# Altium footprint library WL-SIQW.PcbLib: 3 footprints
Each footprint in its own frame and in the unit in brackets; x right, y up, seen from the top. Pads: shape width x height; smd on the part's side, far side on the other; paste and mask are expansions set on the pad; w line width, h text height; cw(c..) or ccw(c..) is an arc to the next point about the centre after c.
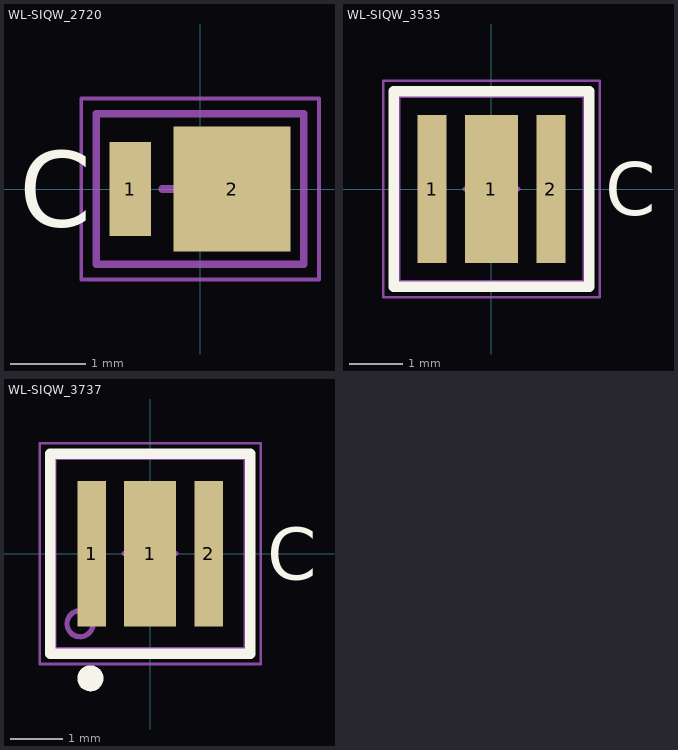
[diagram p0: the footprints below, top view; thin cyan lines are the x and y axes]

## WL-SIQW_2720 [mm] "SMT Infrared QFN LED  Waterclear, body 2.75x2mm"
height 0.6
pads (2):
  rect 0.55x1.25 smd: 1(-0.925,0)
  rect 1.55x1.65 smd: 2(0.425,0)
Top Overlay:
  text "C" at -2.4,-0.5 h1
Top Assembly:
  lines w0.1: -1.375,-1 1.375,-1 1.375,1 -1.375,1 -1.375,-1
Top Designator:
  text ".Designator" at -3.647,-0.357 h1
Top 3D Body:
  lines w0.1: -1.375,-1 -1.375,1 1.375,1 1.375,-1 -1.375,-1
Top Courtyard:
  lines w0.05: -1.575,-1.2 1.575,-1.2 1.575,1.2 -1.575,1.2 -1.575,-1.2
Top Component Center:
  lines w0.1: -0.5,0 0.5,0 ; 0,-0.5 0,0.5
3D body "WL-SIQW_2720_maxSized.stp": height 0.72, standoff -0.03, extent -1.45,-1.075 1.45,1.075

## WL-SIQW_3535 [mm] "SMT Infrared QFN LED  Waterclear, body 3.55x3.55mm"
height 2.63
pads (3):
  rect 0.55x2.8 smd: 1(-1.125,0) 2(1.125,0)
  rect 1x2.8 smd: 1(0,0)
Top Overlay:
  lines w0.2: -1.85,-1.85 -1.85,1.85 1.85,1.85 1.85,-1.85 -1.85,-1.85
  text "C" at 2.15,-0.5 h1
Top Assembly:
  lines w0.1: -1.775,-1.775 1.775,-1.775 1.775,1.775 -1.775,1.775 -1.775,-1.775
Top Designator:
  text ".Designator" at -3.647,-0.357 h1
Top 3D Body:
  lines w0.1: -1.775,-1.775 -1.775,1.775 1.775,1.775 1.775,-1.775 -1.775,-1.775
Top Courtyard:
  lines w0.05: -2.05,-2.05 2.05,-2.05 2.05,2.05 -2.05,2.05 -2.05,-2.05
Top Component Center:
  lines w0.1: -0.5,0 0.5,0 ; 0,-0.5 0,0.5
3D body "WL-SIQW_3535.stp": height 0.85, standoff 0, extent -1.775,-1.775 1.775,1.775

## WL-SIQW_3737 [mm] "SMT Infrared QFN LED  Waterclear, body 3.7x3.7mm"
height 1.49
pads (3):
  rect 0.55x2.8 smd: 1(-1.125,0) 2(1.125,0)
  rect 1x2.8 smd: 1(0,0)
Top Overlay:
  circle w0.25: c-1.15,-2.4 r0.125
  lines w0.2: -1.925,-1.925 1.925,-1.925 1.925,1.925 -1.925,1.925 -1.925,-1.925
  text "C" at 2.25,-0.5 h1
Top Assembly:
  circle w0.1: c-1.35,-1.35 r0.25
  lines w0.1: -1.85,-1.85 1.85,-1.85 1.85,1.85 -1.85,1.85 -1.85,-1.85
Top Designator:
  text ".Designator" at -3.647,-0.357 h1
Top 3D Body:
  circle w0.1: c-1.35,-1.35 r0.25
  lines w0.1: -1.85,-1.85 -1.85,1.85 1.85,1.85 1.85,-1.85 -1.85,-1.85
Top Courtyard:
  lines w0.05: -2.125,-2.125 -2.125,2.125 2.125,2.125 2.125,-2.125 -2.125,-2.125
Top Component Center:
  lines w0.1: -0.5,0 0.5,0 ; 0,-0.5 0,0.5
3D body "WL-SIQW_3737.stp": height 0.71, standoff 0, extent -1.85,-1.85 1.85,1.85